# Altium schematic symbol library SCH - POWER - SWITCHMODE - TI TPS61141_DRC_10.SchLib: 1 symbol
Pins are listed as number, name and electrical type; pins without a type are passive.

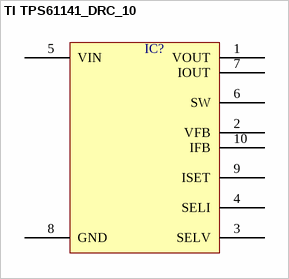
[diagram p0: symbol TI TPS61141_DRC_10]

## TI TPS61141_DRC_10
designator IC?  (value not drawn)
pins: 1 VOUT, 2 VFB, 3 SELV, 4 SELI, 5 VIN, 6 SW, 7 IOUT, 8 GND, 9 ISET, 10 IFB